# Altium schematic symbol library Schlib1.SchLib: 2 symbols
Pins are listed as number, name and electrical type; pins without a type are passive.

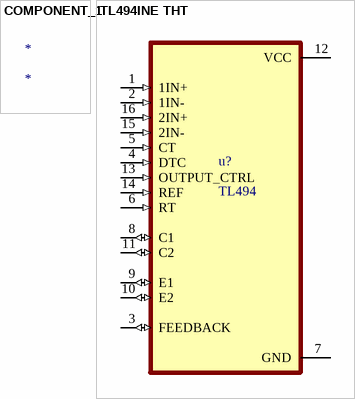
[diagram p0: symbols COMPONENT_1 to TL494INE THT]

## COMPONENT_1
designator *

## TL494INE THT
designator u?, comment TL494
footprint DIP794W45P254L1969H508Q16
pins: 1 1IN+ (in), 2 1IN- (in), 3 FEEDBACK (io), 4 DTC (in), 5 CT (in), 6 RT (in), 7 GND (power), 8 C1 (io), 9 E1 (io), 10 E2 (io), 11 C2 (io), 12 VCC (power), 13 OUTPUT_CTRL (in), 14 REF (in), 15 2IN- (in), 16 2IN+ (in)